# Altium schematic symbol library C1206.Schlib: 1 symbol
Pins are listed as number, name and electrical type; pins without a type are passive.

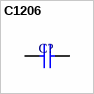
[diagram p0: symbol C1206]

## C1206
designator C?  (value not drawn)
1206 Ceramic Chip Capacitor - Standard
pins: 1, 2